# Altium integrated library GPS_Tracker_V1.IntLib: 36 symbols
Pins are listed as number, name and electrical type; pins without a type are passive.

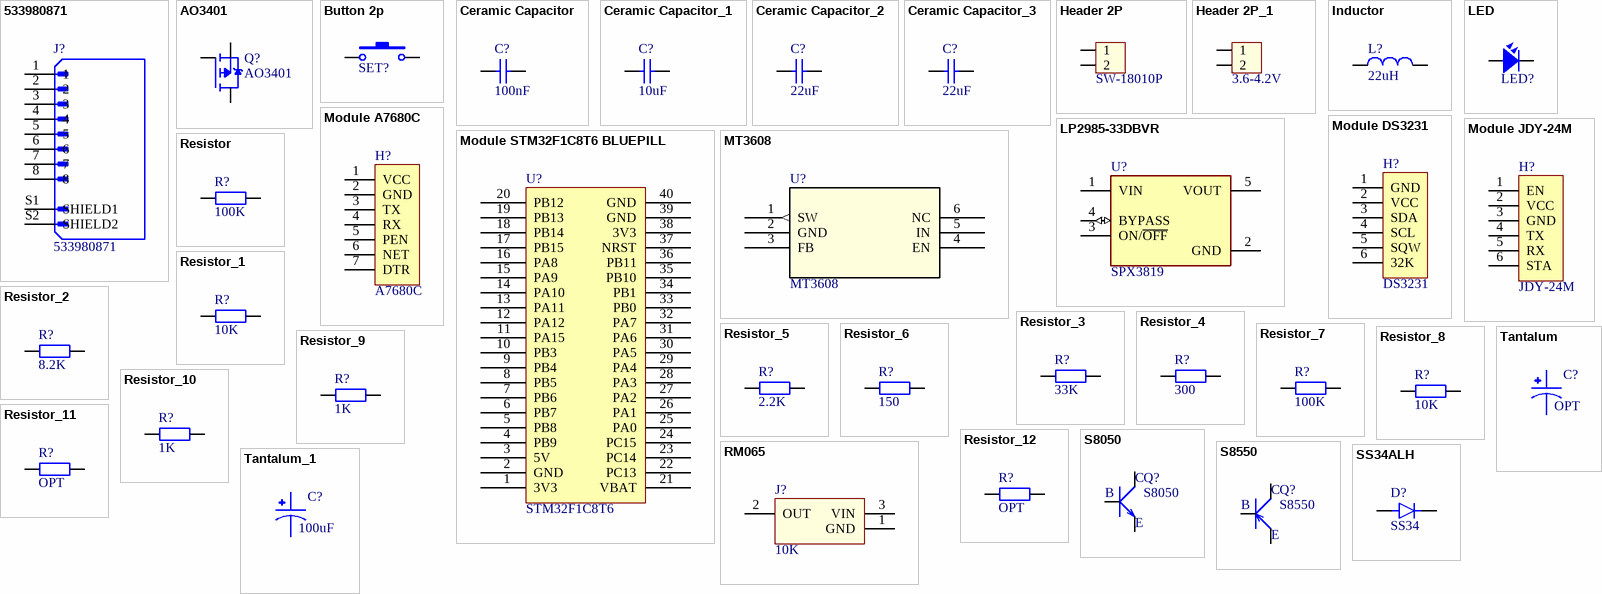
[diagram p0: symbols 533980871 to Tantalum_1]

## 533980871
designator J?
MX 1.25mm 8 pin;Conn; Rect; Header; 1.25 mm Pitch; PCB; 8 Cir; Ver; SMT; PicoBlade; LF | Molex Incorporated 53398-0871; Price: None; MP: 533980871; Availability: Unavailable; Value: *; Package: None
footprint MOLEX_533980871
pins: 1, 2, 3, 4, 5, 6, 7, 8, S1 SHIELD1, S2 SHIELD2

## AO3401
designator Q?
Mosfet P-Channel 30 V 4A (Ta) 1.4W (Ta) Surface Mount SOT-23-3; MF: Alpha &; SnapEDA_Link: https://www.snapeda.com/parts/AO3401/Alpha+%2526+Omega+Semiconductor+Inc./view-part/?ref=snap; Package: TO-236-3 Alpha &amp; Omega Semiconductor Inc.; Value: *; MP: AO3401; Check_prices: https://www.snapeda.com/parts/AO3401/Alpha+%2526+Omega+Semiconductor+Inc./view-part/?ref=eda
footprint SOT23
pins: 1 G, 2 S, 3 D

## Button 2p
designator SET?  (value not drawn)
Nut Nhan 2 Chan SMD 3x6x2.5; Ma_Hang: MH001036; Ten: Nút Nhấn 2 Chân 3x6x2.5MM SMD
footprint Button 2p 3x6x2.5 (Switch SMD type)
pins: 1, 2

## Ceramic Capacitor
designator C?, comment 100nF
Chung_Loai: Dán; Don_Vi: Con; So_Chan: 2; Ten_Linh_Kien: Tụ 0805 104-100nF 10% 50V; Ma_Hang: MH004551; Kieu_Chan: *
footprint 0603_Cap (0603 SMD Ceramic Capacitor)
footprint 0805_Cap (0805 SMD Ceramic Capacitor)
footprint 1206_CAP (3216 Tantalum Capacitor)
pins: 1, 2

## Ceramic Capacitor_1
designator C?, comment 10uF
Chung_Loai: Dán; Don_Vi: Con; So_Chan: 2; Ten_Linh_Kien: Tụ 0805 104-100nF 10% 50V; Ma_Hang: MH004551; Kieu_Chan: *
footprint 0603_Cap (0603 SMD Ceramic Capacitor)
footprint 0805_Cap (0805 SMD Ceramic Capacitor)
footprint 1206_CAP (3216 Tantalum Capacitor)
pins: 1, 2

## Ceramic Capacitor_2
designator C?, comment 22uF
Chung_Loai: Dán; Don_Vi: Con; So_Chan: 2; Ten_Linh_Kien: Tụ 0805 104-100nF 10% 50V; Ma_Hang: MH004551; Kieu_Chan: *
footprint 0603_Cap (0603 SMD Ceramic Capacitor)
footprint 0805_Cap (0805 SMD Ceramic Capacitor)
footprint 1206_CAP (3216 Tantalum Capacitor)
pins: 1, 2

## Ceramic Capacitor_3
designator C?, comment 22uF
Chung_Loai: Dán; Don_Vi: Con; So_Chan: 2; Ten_Linh_Kien: Tụ 0805 104-100nF 10% 50V; Ma_Hang: MH004551; Kieu_Chan: *
footprint 0603_Cap (0603 SMD Ceramic Capacitor)
footprint 0805_Cap (0805 SMD Ceramic Capacitor)
footprint 1206_CAP (3216 Tantalum Capacitor)
pins: 1, 2

## Header 2P
designator H?, comment SW-18010P
THT; Ten_Linh_Kien: Header 2P XH2.54-2P Đực Cong; Don_Vi: Con; Ma_Hang: MH002852; Chung_Loai: Cắm
footprint XH2.54M-2
footprint CON 2 EDG5.08-2P
footprint JP 1x2
pins: 1, 2

## Header 2P_1
designator H?, comment 3.6-4.2V
THT; Ten_Linh_Kien: Header 2P XH2.54-2P Đực Cong; Don_Vi: Con; Ma_Hang: MH002852; Chung_Loai: Cắm
footprint XH2.54M-2
footprint CON 2 EDG5.08-2P
footprint JP 1x2
footprint KF301-2P
pins: 1, 2

## Inductor
designator L?, comment 22uH
Inductors from EPCOS include SMT Inductors, SMT Power Inductors, Transponder Coils, ISDN Transformers, xDSL Transformers, DC/DC Converters, RF Transformers and SMT Current Sense Transformers.; MP: B82477G4472M000; Price: None; SnapEDA_Link: https://www.snapeda.com/parts/B82477G4472M000/EPCOS/view-part/?ref=snap; Package: NON STANDARD-2 EPCOS; Value: *; Check_prices: https://www.snapeda.com/parts/B82477G4472M000/EPCOS/view-part/?ref=eda; Availability: In Stock; MF: EPCOS; Purchase-URL: https://pricing.snapeda.com/search/part/B82477G4472M000/?ref=eda
footprint 0603_Inductor (SMD)
footprint Inductor 5A (THT)
footprint INDUCTOR CDRH104 (CDRH104 Cu?n C?m Dan SMD 1038-220 22uH 3.6A)
footprint INDUCTROR 8D43-220 (Inductor SMD 8D43-220 22uH 3.25A)
pins: 1, 2

## LED
designator LED?  (value not drawn)
LED single color 2 leads
footprint 0603_LED (LED single color 2 leads)
footprint 0805_LED
pins: A Anode, C Cathode

## LP2985-33DBVR
designator U?, comment SPX3819
150-mA, 16-V, low-dropout voltage regulator with enable 5-SOT-23 -40 to 125; MP: LP2985-33DBVR; Package: None; Value: *; Price: None; Availability: Unavailable
footprint SOT95P280X145-5N
pins: 1 VIN, 2 GND (power), 3 ON/~{OFF}, 4 BYPASS (io), 5 VOUT

## Module A7680C
designator H?, comment A7680C
SIM Module A7680C; A7672S 4G
footprint Module A7680C (Footprint for A7680C)
pins: 1 VCC, 2 GND, 3 TX, 4 RX, 5 PEN, 6 NET, 7 DTR

## Module DS3231
designator H?, comment DS3231
Module RTC (Real Time Clock) DS3231 6p
footprint Module DS3231
pins: 1 GND, 2 VCC, 3 SDA, 4 SCL, 5 SQW, 6 32K

## Module JDY-24M
designator H?, comment JDY-24M
Module BLE JDY-24M Bluetooth module 6p
footprint Module JDY-24M
pins: 1 EN, 2 VCC, 3 GND, 4 TX, 5 RX, 6 STA

## Module STM32F1C8T6 BLUEPILL
designator U?, comment STM32F1C8T6
Module stm32f1 Bluepill
footprint Module STM32F1C8T6 BLUEPILL (stm32f1 Bluepill)
pins: 1 3V3, 2 GND, 3 5V, 4 PB9, 5 PB8, 6 PB7, 7 PB6, 8 PB5, 9 PB4, 10 PB3, 11 PA15, 12 PA12, 13 PA11, 14 PA10, 15 PA9, 16 PA8, 17 PB15, 18 PB14, 19 PB13, 20 PB12, 21 VBAT, 22 PC13, 23 PC14, 24 PC15, 25 PA0, 26 PA1, 27 PA2, 28 PA3, 29 PA4, 30 PA5, 31 PA6, 32 PA7, 33 PB0, 34 PB1, 35 PB10, 36 PB11, 37 NRST, 38 3V3, 39 GND, 40 GND

## MT3608
designator U?
No Description Available; Mfr_Name: Aerosemi; RefDes: RefDes; Type: Type
footprint TSOT23-6SOT23-6_AER
pins: 1 SW (out), 2 GND (power), 3 FB, 4 EN, 5 IN (power), 6 NC

## Resistor
designator R?, comment 100K
Chung_Loai: Dán; Don_Vi: Con; So_Chan: 2; Ten_Linh_Kien: Trở 0805 1% 1k; Ma_Hang: MH005468; Kieu_Chan: *
footprint 0805_Res (0805 SMD Resistor)
footprint 0603_Res (0603 SMD Resistor)
pins: 1, 2

## Resistor_1
designator R?, comment 10K
Chung_Loai: Dán; Don_Vi: Con; So_Chan: 2; Ten_Linh_Kien: Trở 0805 1% 1k; Ma_Hang: MH005468; Kieu_Chan: *
footprint 0805_Res (0805 SMD Resistor)
footprint 0603_Res (0603 SMD Resistor)
pins: 1, 2

## Resistor_2
designator R?, comment 8.2K
Chung_Loai: Dán; Don_Vi: Con; So_Chan: 2; Ten_Linh_Kien: Trở 0805 1% 1k; Ma_Hang: MH005468; Kieu_Chan: *
footprint 0805_Res (0805 SMD Resistor)
footprint 0603_Res (0603 SMD Resistor)
pins: 1, 2

## Resistor_3
designator R?, comment 33K
Chung_Loai: Dán; Don_Vi: Con; So_Chan: 2; Ten_Linh_Kien: Trở 0805 1% 1k; Ma_Hang: MH005468; Kieu_Chan: *
footprint 0805_Res (0805 SMD Resistor)
footprint 0603_Res (0603 SMD Resistor)
pins: 1, 2

## Resistor_4
designator R?, comment 300
Chung_Loai: Dán; Don_Vi: Con; So_Chan: 2; Ten_Linh_Kien: Trở 0805 1% 1k; Ma_Hang: MH005468; Kieu_Chan: *
footprint 0805_Res (0805 SMD Resistor)
footprint 0603_Res (0603 SMD Resistor)
pins: 1, 2

## Resistor_5
designator R?, comment 2.2K
Chung_Loai: Dán; Don_Vi: Con; So_Chan: 2; Ten_Linh_Kien: Trở 0805 1% 1k; Ma_Hang: MH005468; Kieu_Chan: *
footprint 0805_Res (0805 SMD Resistor)
footprint 0603_Res (0603 SMD Resistor)
pins: 1, 2

## Resistor_6
designator R?, comment 150
Chung_Loai: Dán; Don_Vi: Con; So_Chan: 2; Ten_Linh_Kien: Trở 0805 1% 1k; Ma_Hang: MH005468; Kieu_Chan: *
footprint 0805_Res (0805 SMD Resistor)
footprint 0603_Res (0603 SMD Resistor)
pins: 1, 2

## Resistor_7
designator R?, comment 100K
Chung_Loai: Dán; Don_Vi: Con; So_Chan: 2; Ten_Linh_Kien: Trở 0805 1% 1k; Ma_Hang: MH005468; Kieu_Chan: *
footprint 0805_Res (0805 SMD Resistor)
footprint 0603_Res (0603 SMD Resistor)
pins: 1, 2

## Resistor_8
designator R?, comment 10K
Chung_Loai: Dán; Don_Vi: Con; So_Chan: 2; Ten_Linh_Kien: Trở 0805 1% 1k; Ma_Hang: MH005468; Kieu_Chan: *
footprint 0805_Res (0805 SMD Resistor)
footprint 0603_Res (0603 SMD Resistor)
pins: 1, 2

## Resistor_9
designator R?, comment 1K
Chung_Loai: Dán; Don_Vi: Con; So_Chan: 2; Ten_Linh_Kien: Trở 0805 1% 1k; Ma_Hang: MH005468; Kieu_Chan: *
footprint 0805_Res (0805 SMD Resistor)
footprint 0603_Res (0603 SMD Resistor)
pins: 1, 2

## Resistor_10
designator R?, comment 1K
Chung_Loai: Dán; Don_Vi: Con; So_Chan: 2; Ten_Linh_Kien: Trở 0805 1% 1k; Ma_Hang: MH005468; Kieu_Chan: *
footprint 0805_Res (0805 SMD Resistor)
footprint 0603_Res (0603 SMD Resistor)
pins: 1, 2

## Resistor_11
designator R?, comment OPT
Chung_Loai: Dán; Don_Vi: Con; So_Chan: 2; Ten_Linh_Kien: Trở 0805 1% 1k; Ma_Hang: MH005468; Kieu_Chan: *
footprint 0805_Res (0805 SMD Resistor)
footprint 0603_Res (0603 SMD Resistor)
pins: 1, 2

## Resistor_12
designator R?, comment OPT
Chung_Loai: Dán; Don_Vi: Con; So_Chan: 2; Ten_Linh_Kien: Trở 0805 1% 1k; Ma_Hang: MH005468; Kieu_Chan: *
footprint 0805_Res (0805 SMD Resistor)
footprint 0603_Res (0603 SMD Resistor)
pins: 1, 2

## RM065
designator J?, comment 10K
Circuit Breaker Thermal 6.5A 240V AC 60V DC Rocker Panel Mount, Snap-In; MP: RM-065; MF: Vishay; Value: *; Package: None; Availability: Not in stock; SnapEDA_Link: https://www.snapeda.com/parts/RM-065/Vishay/view-part/?ref=snap; Price: None; Check_prices: https://www.snapeda.com/parts/RM-065/Vishay/view-part/?ref=eda
footprint RM065
pins: 1 GND, 2 OUT, 3 VIN

## S8050
designator Q?
Bipolar (BJT) Transistor NPN SOT-23; MF: UMW; Purchase-URL: https://banlinhkien.com/s8050-sot23-trans-npn-0.5a-40v-j3y-10c-p15943539.html; Check_prices: https://banlinhkien.com/s8050-sot23-trans-npn-0.5a-40v-j3y-10c-p15943539.html; Link: https://banlinhkien.com/s8050-sot23-trans-npn-0.5a-40v-j3y-10c-p15943539.html; Price: None; Availability: In Stock; Package: None; MP: S8050; Value: *
footprint SOT23
pins: 1 B, 2 E, 3 C

## S8550
designator Q?
Bipolar (BJT) Transistor PNP SOT-23; MF: UMW; MP: S8050; Purchase-URL: https://banlinhkien.com/s8050-sot23-trans-npn-0.5a-40v-j3y-10c-p15943539.html; Check_prices: https://banlinhkien.com/s8050-sot23-trans-npn-0.5a-40v-j3y-10c-p15943539.html; SnapEDA_Link: https://www.snapeda.com/parts/S8050/Umwelt+Sensor+Teknik/view-part/?ref=snap; Price: None; Availability: In Stock; Package: None; Value: *
footprint SOT-23
pins: 1 B, 2 E, 3 C

## SS34ALH
designator D?, comment SS34
3A, 40V, Schottky Rectifier; MP: SS34ALH; MF: Taiwan Semiconductor; Package: DO-221AC Taiwan Semiconductor; Value: *; SnapEDA_Link: https://www.snapeda.com/parts/SS34ALH/Taiwan+Semiconductor/view-part/?ref=snap; Availability: Not in stock; Price: None; Check_prices: https://www.snapeda.com/parts/SS34ALH/Taiwan+Semiconductor/view-part/?ref=eda
footprint SODFL5226X100N
pins: 1 K, 2 A

## Tantalum
designator C?, comment OPT
Molded Tantalum Capacitors
footprint 2312_Tantalum
footprint 2917 _Tantalum
footprint 1206_Tantalum
pins: 1, 2

## Tantalum_1
designator C?, comment 100uF
Molded Tantalum Capacitors
footprint 2312_Tantalum
footprint 2917 _Tantalum
footprint 1206_Tantalum
pins: 1, 2